# Altium footprint library SW-TH_SSSU011700_2021-01-09.PcbLib: 1 footprints
Each footprint in its own frame and in the unit in brackets; x right, y up, seen from the top. Pads: shape width x height; smd on the part's side, far side on the other; paste and mask are expansions set on the pad; w line width, h text height; cw(c..) or ccw(c..) is an arc to the next point about the centre after c.
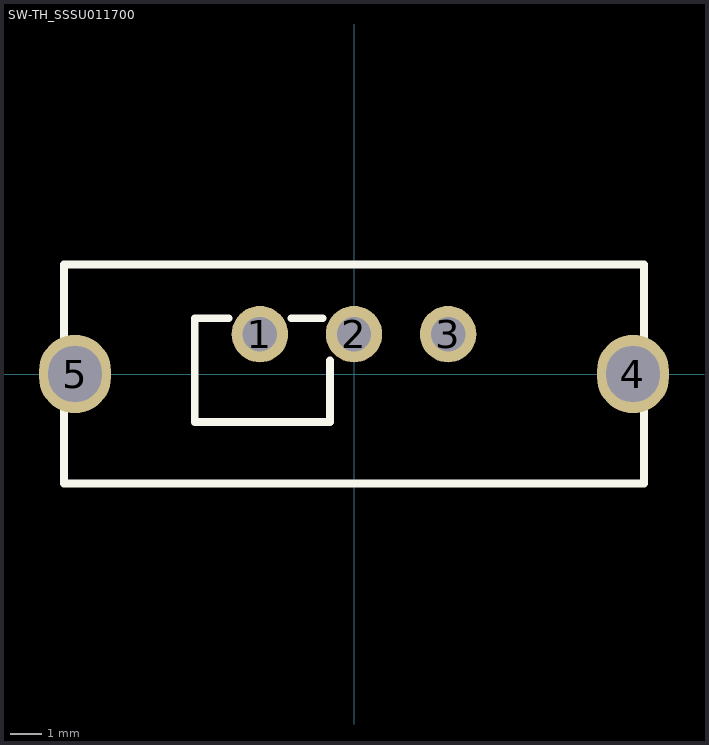
[diagram p0: the footprint, top view; thin cyan lines are the x and y axes]

## SW-TH_SSSU011700 [mm]
pads (5):
  round 1.8 hole 1.1: 1(-3,1.27) 2(0,1.27) 3(3,1.27)
  oval 2.3x2.5 hole 1.7 slot 1.8 at 90 deg: 4(8.9,0) 5(-8.9,0)
Top Overlay:
  lines w0.254: -4.01,1.778 -5.08,1.778 -5.08,-1.524 -0.762,-1.524 -0.762,0.435 ; -1.99,1.778 -1.01,1.778 ; -9.25,-3.5 -9.25,3.5 9.25,3.5 9.25,-3.5 -9.25,-3.5